# Altium footprint library Connectors_FPC.PcbLib: 3 footprints
Each footprint in its own frame and in the unit in brackets; x right, y up, seen from the top. Pads: shape width x height; smd on the part's side, far side on the other; paste and mask are expansions set on the pad; w line width, h text height; cw(c..) or ccw(c..) is an arc to the next point about the centre after c.
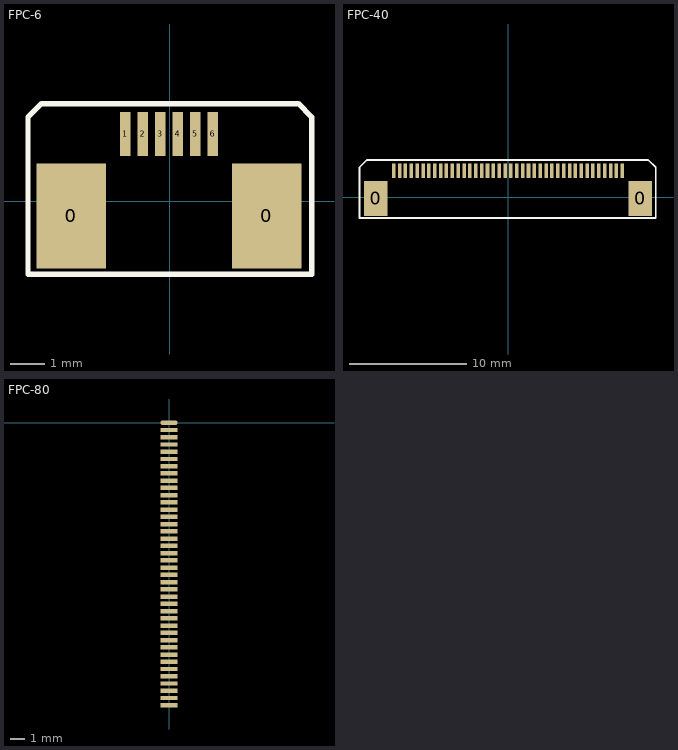
[diagram p0: the footprints below, top view; thin cyan lines are the x and y axes]

## FPC-6 [mm]
pads (8):
  rect 2x3 smd: 0(-2.825,-0.425) 0(2.775,-0.425)
  rect 0.3x1.25 smd: 1(-1.275,1.925) 2(-0.775,1.925) 3(-0.275,1.925) 4(0.225,1.925) 5(0.725,1.925) 6(1.225,1.925)
Top Overlay:
  lines w0.15: -4.064,-2.1 4.064,-2.1 4.064,2.413 3.683,2.794 -3.683,2.794 -4.064,2.413 -4.064,-2.1
3D body "31826.stp": height 1.03, standoff 0.03, extent -2.525,-1.4 2.475,2.4

## FPC-40 [mm]
pads (42):
  rect 2x3 smd: 0(-11.325,-0.1) 0(11.275,-0.1)
  rect 0.3x1.25 smd: 1(-9.775,2.25) 2(-9.275,2.25) 3(-8.775,2.25) 4(-8.275,2.25) 5(-7.775,2.25) 6(-7.275,2.25) 7(-6.775,2.25) 8(-6.275,2.25) 9(-5.775,2.25) 10(-5.275,2.25) 11(-4.775,2.25) 12(-4.275,2.25) 13(-3.775,2.25) 14(-3.275,2.25) 15(-2.775,2.25) 16(-2.275,2.25) 17(-1.775,2.25) 18(-1.275,2.25) 19(-0.775,2.25) 20(-0.275,2.25) 21(0.225,2.25) 22(0.725,2.25) 23(1.225,2.25) 24(1.725,2.25) 25(2.225,2.25) 26(2.725,2.25) 27(3.225,2.25) 28(3.725,2.25) 29(4.225,2.25) 30(4.725,2.25) 31(5.225,2.25) 32(5.725,2.25) 33(6.225,2.25) 34(6.725,2.25) 35(7.225,2.25) 36(7.725,2.25) 37(8.225,2.25) 38(8.725,2.25) 39(9.225,2.25) 40(9.725,2.25)
Top Overlay:
  lines w0.15: -12.7,-1.775 12.573,-1.775 12.573,2.54 11.938,3.175 -12.065,3.175 -12.7,2.54 -12.7,-1.775
3D body "31805.stp": height 2.5, standoff -0.05, extent -12.5,-4.35 12.4,2.85

## FPC-80 [mm]
pads (40):
  oval 1.2x0.3 smd: 1(0,0)
  rect 1.2x0.3 smd: 2(0,-0.5) 3(0,-1) 4(0,-1.5) 5(0,-2) 6(0,-2.5) 7(0,-3) 8(0,-3.5) 9(0,-4) 10(0,-4.5) 11(0,-5) 12(0,-5.5) 13(0,-6) 14(0,-6.5) 15(0,-7) 16(0,-7.5) 17(0,-8) 18(0,-8.5) 19(0,-9) 20(0,-9.5) 21(0,-10) 22(0,-10.5) 23(0,-11) 24(0,-11.5) 25(0,-12) 26(0,-12.5) 27(0,-13) 28(0,-13.5) 29(0,-14) 30(0,-14.5) 31(0,-15) 32(0,-15.5) 33(0,-16) 34(0,-16.5) 35(0,-17) 36(0,-17.5) 37(0,-18) 38(0,-18.5) 39(0,-19) 40(0,-19.5)